# Altium integrated library TPD4E002DRLR.IntLib: 1 symbol
Pins are listed as number, name and electrical type; pins without a type are passive.

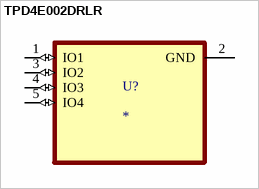
[diagram p0: symbol TPD4E002DRLR]

## TPD4E002DRLR
designator U?
MP: TPD4E002DRLR; Package: None; Price: None; Value: *; Availability: Unavailable
footprint SOT50P160X60-5N
pins: 1 IO1 (io), 2 GND (power), 3 IO2 (io), 4 IO3 (io), 5 IO4 (io)